# Altium footprint library PowerSupply.PcbLib: 14 footprints
Each footprint in its own frame and in the unit in brackets; x right, y up, seen from the top. Pads: shape width x height; smd on the part's side, far side on the other; paste and mask are expansions set on the pad; w line width, h text height; cw(c..) or ccw(c..) is an arc to the next point about the centre after c.
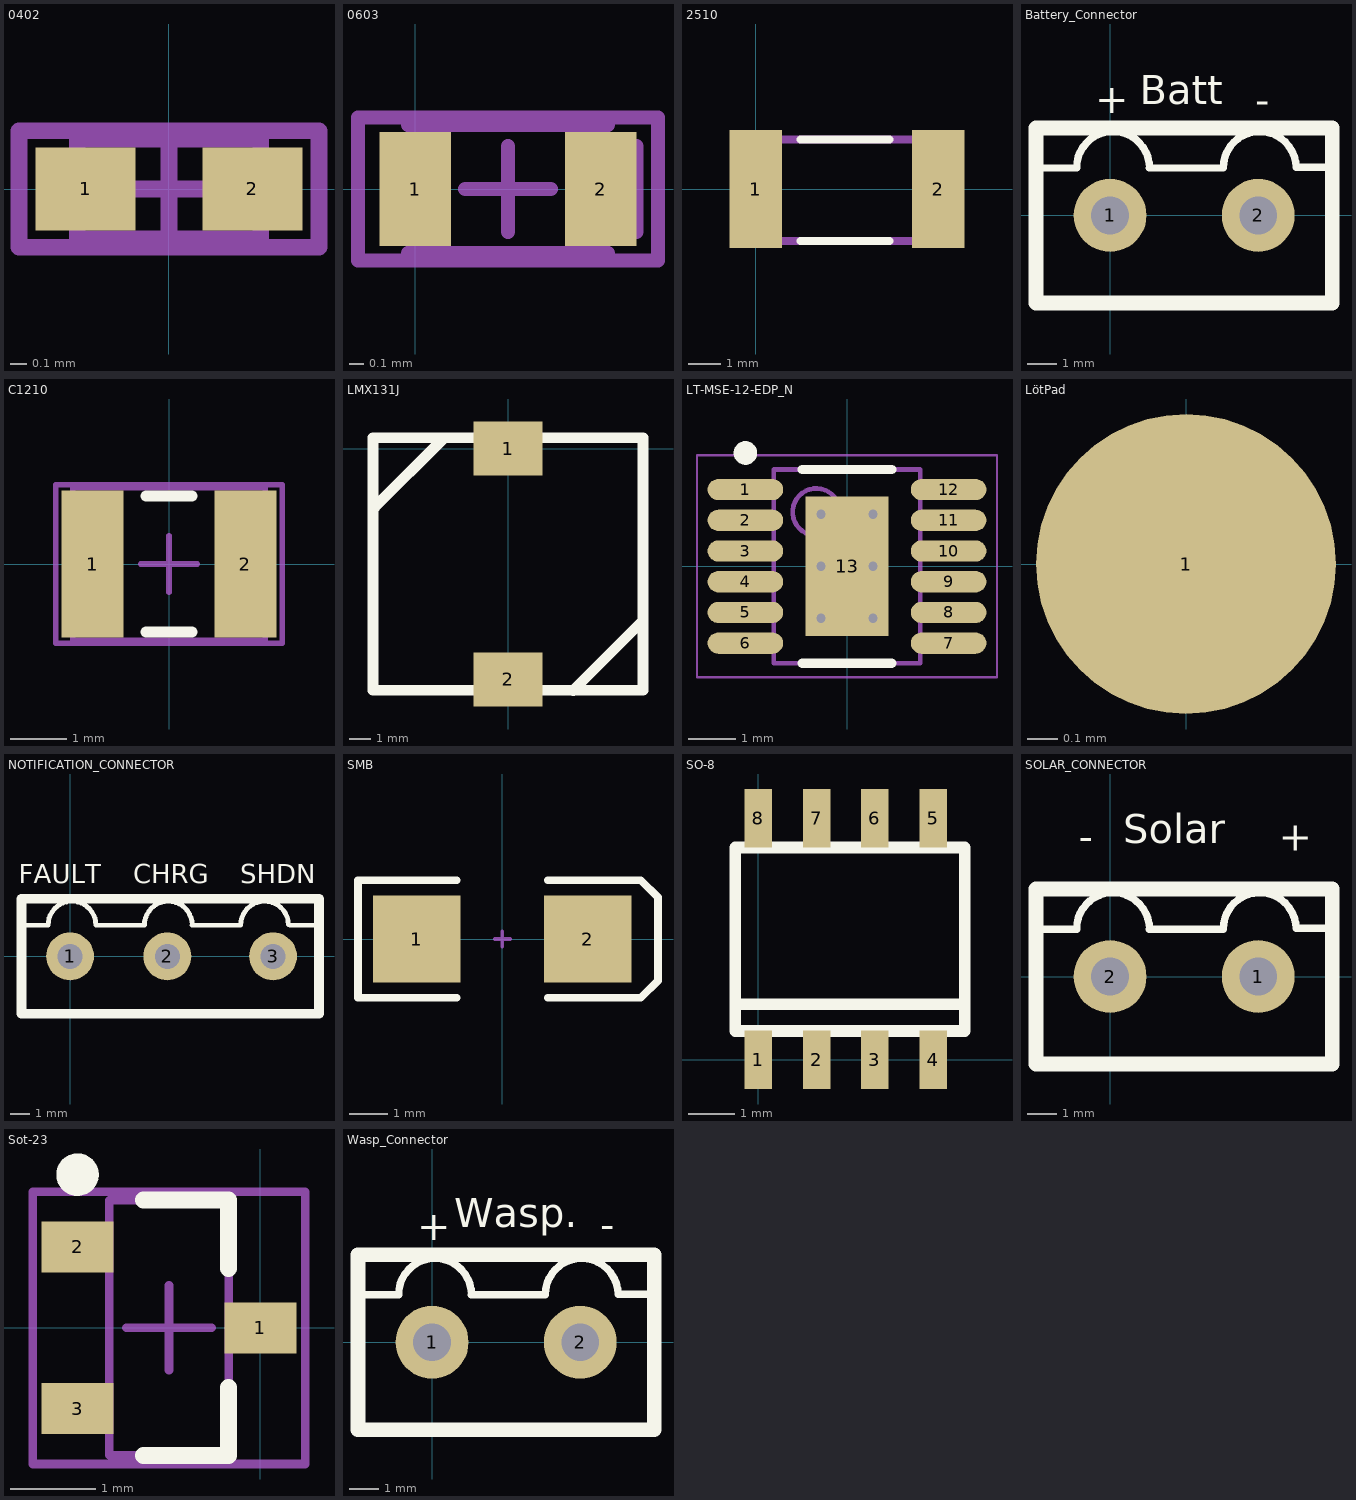
[diagram p0: the footprints below, top view; thin cyan lines are the x and y axes]

## 0402 [mm] "Chip Inductor, Body 1.0x0.5mm, IPC High Density"
height 0.55
pads (2):
  rect 0.6x0.5 smd: 1(-0.5,0) 2(0.5,0)
Mechanical 13:
  lines w0.1: -0.55,-0.3 -0.55,0.3 0.55,0.3 0.55,-0.3 -0.55,-0.3
Mechanical 15:
  lines w0.1: -0.3,0 0.3,0 ; 0,-0.3 0,0.3 ; -0.9,-0.35 -0.9,0.35 0.9,0.35 0.9,-0.35 -0.9,-0.35
3D body: height 0.55, standoff 0, extent -0.55,-0.3 0.55,0.3

## 0603 [mm]
pads (2):
  rect 0.5x0.8 smd: 1(0,0) 2(1.3,0)
Mechanical 13:
  lines w0.1: -0.05,-0.45 1.35,-0.45 ; -0.05,-0.3 -0.05,0.3 ; -0.05,0.45 1.35,0.45 ; 1.55,-0.3 1.55,0.3
Mechanical 15:
  lines w0.1: 0.35,0 0.95,0 ; 0.65,-0.3 0.65,0.3 ; -0.4,-0.5 1.7,-0.5 1.7,0.5 -0.4,0.5 -0.4,-0.5
3D body: height 0.55, standoff 0, extent -0.062,-0.325 1.363,0.325

## 2510 [mm]
pads (2):
  rect 1.65x3.68 smd: 1(0,0) 2(5.71,0)
Top Overlay:
  lines w0.254: 1.397,-1.626 4.191,-1.626 ; 1.397,1.549 4.191,1.549
Mechanical 13:
  lines w0.254: -0.381,-1.631 5.969,-1.631 5.969,1.549 -0.381,1.549 -0.381,-1.631

## Battery_Connector [mm]
pads (2):
  round 2.5 hole 1.3: 1(0,0) 2(5.08,0)
Top Overlay:
  lines w0.254: -2.489,1.626 -1.143,1.626 ; -1.149,1.628 cw(c0.101,1.628) 1.351,1.626 ; 1.346,1.626 3.886,1.626 ; 3.88,1.628 cw(c5.13,1.628) 6.38,1.65 ; 6.401,1.651 7.747,1.651
  lines w0.508: -2.54,-3 7.62,-3 7.62,3 -2.54,3 -2.54,-3
  text "Batt" at 1.016,3.81 h1
  text "+" at -0.5,3.5 h1
  text "-" at 4.98,3.46 h1

## C1210 [mm] "Chip Capacitor, Body 3.2x2.5mm, IPC High Density"
height 1.3
pads (2):
  rect 1.1x2.6 smd: 1(-1.35,0) 2(1.35,0)
Top Overlay:
  lines w0.2: -0.4,-1.2 0.4,-1.2 ; -0.4,1.2 0.4,1.2
Mechanical 13:
  lines w0.1: -1.7,-1.35 -1.7,1.35 1.7,1.35 1.7,-1.35 -1.7,-1.35
Mechanical 15:
  lines w0.1: -0.5,0 0.5,0 ; 0,-0.5 0,0.5 ; -2,-1.4 -2,1.4 2,1.4 2,-1.4 -2,-1.4
3D body: height 1.3, standoff 0, extent -1.7,-1.35 1.7,1.35

## LMX131J [mm]
pads (2):
  rect 3.2x2.5 smd: 1(0,0) 2(0,-10.7)
Top Overlay:
  lines w0.508: -6.172,-2.718 -2.997,0.457 ; 3.023,-11.201 6.198,-8.026 ; -6.25,-11.2 -6.25,0.5 6.25,0.5 6.25,-11.2 -6.25,-11.2

## LT-MSE-12-EDP_N [mm] "SOP, 12-Leads, Body 4.1x3.1mm, Pitch 0.65mm, Thermal Pad 2.95x1.76mm, IPC Medium Density"
height 1.1
pads (13):
  oval 1.6x0.45 smd: 1(-2.15,1.625) 2(-2.15,0.975) 3(-2.15,0.325) 4(-2.15,-0.325) 5(-2.15,-0.975) 6(-2.15,-1.625) 7(2.15,-1.625) 8(2.15,-0.975) 9(2.15,-0.325) 10(2.15,0.325) 11(2.15,0.975) 12(2.15,1.625)
  rect 1.76x2.95 smd: 13(0,0)
via -0.55,1.1 diameter 0.5 hole 0.2
via 0.55,1.1 diameter 0.5 hole 0.2
via -0.55,0 diameter 0.5 hole 0.2
via 0.55,0 diameter 0.5 hole 0.2
via -0.55,-1.1 diameter 0.5 hole 0.2
via 0.55,-1.1 diameter 0.5 hole 0.2
Top Overlay:
  circle w0.25: c-2.15,2.4 r0.125
  lines w0.2: -0.95,-2.05 0.95,-2.05 ; -0.95,2.05 0.95,2.05
Mechanical 13:
  circle w0.1: c-0.65,1.15 r0.5
  lines w0.1: -1.55,-2.05 -1.55,2.05 1.55,2.05 1.55,-2.05 -1.55,-2.05
Mechanical 15:
  lines w0.05: -3.175,-2.35 -3.175,2.35 3.175,2.35 3.175,-2.35 -3.175,-2.35
  lines w0.1: -0.5,0 0.5,0 ; 0,-0.5 0,0.5
3D body: height 1.1, standoff 0.05, extent -1.55,-2.05 1.55,2.05

## LötPad [mm]
pads (1):
  round 1 smd: 1(0,0)

## NOTIFICATION_CONNECTOR [mm]
pads (3):
  round 2.5 hole 1.3: 1(0,0) 2(5.08,0) 3(10.6,0)
Top Overlay:
  lines w0.254: -2.489,1.626 -1.143,1.626 ; -1.149,1.628 cw(c0.101,1.628) 1.351,1.626 ; 1.346,1.626 3.886,1.626 ; 3.88,1.628 cw(c5.13,1.628) 6.38,1.65 ; 6.375,1.626 8.915,1.626 ; 8.909,1.628 cw(c10.159,1.628) 11.409,1.65 ; 11.481,1.626 12.827,1.626
  lines w0.508: -2.54,-3 -2.54,3 13,3 13,-3 -2.54,-3
  text "CHRG" at 3.302,3.81 h1
  text "FAULT" at -2.667,3.81 h1
  text "SHDN" at 8.89,3.81 h1

## SMB [mm] "DO-214-AA/SMB; 2 C-Bend Leads; Body 5.3 x 3.6 mm, inc. leads (LxW)"
height 2.54
pads (2):
  rect 2.3x2.3 smd: 1(-2.25,0) 2(2.25,0)
Top Overlay:
  lines w0.2: -1.2,-1.55 -3.8,-1.55 -3.8,1.55 -1.2,1.55 ; 1.2,-1.55 3.65,-1.55 4.1,-1.1 4.1,1.1 3.65,1.55 1.2,1.55
Mechanical 1:
  lines w0.1: -0.2,0 0.2,0 ; 0,-0.2 0,0.2

## SO-8 [mm]
pads (8):
  rect 0.6x1.27 smd: 1(0,0) 2(1.27,0) 3(2.54,0) 4(3.81,0) 5(3.81,5.27) 6(2.54,5.27) 7(1.27,5.27) 8(0,5.27)
Top Overlay:
  lines w0.254: -0.5,1.214 4.5,1.214 ; -0.5,0.63 -0.5,4.63 4.5,4.63 4.5,0.63 -0.5,0.63

## SOLAR_CONNECTOR [mm]
pads (2):
  round 2.5 hole 1.3: 1(5.08,0) 2(0,0)
Top Overlay:
  lines w0.254: -2.489,1.626 -1.143,1.626 ; -1.149,1.628 cw(c0.101,1.628) 1.351,1.626 ; 1.346,1.626 3.886,1.626 ; 3.88,1.628 cw(c5.13,1.628) 6.38,1.65 ; 6.401,1.651 7.747,1.651
  lines w0.508: -2.54,-3 7.62,-3 7.62,3 -2.54,3 -2.54,-3
  text "Solar" at 0.451,4.572 h1
  text "+" at 5.785,4.318 h1
  text "-" at -1.073,4.318 h1

## Sot-23 [mm]
pads (3):
  rect 0.85x0.6 smd: 1(0,0) 2(-2.15,0.95) 3(-2.15,-0.95)
Top Overlay:
  circle w0.25: c-2.15,1.8 r0.125
  lines w0.2: -1.375,-1.5 -0.375,-1.5 -0.375,-0.7 ; -1.375,1.5 -0.375,1.5 -0.375,0.7
Mechanical 13:
  lines w0.1: -1.775,-1.5 -1.775,1.5 -0.375,1.5 -0.375,-1.5 -1.775,-1.5
Mechanical 15:
  lines w0.1: -1.575,0 -0.575,0 ; -1.075,-0.5 -1.075,0.5 ; -2.675,-1.6 -2.675,1.6 0.525,1.6 0.525,-1.6 -2.675,-1.6
3D body: height 1.1, standoff 0, extent -1.775,-1.5 -0.375,1.5

## Wasp_Connector [mm]
pads (2):
  round 2.5 hole 1.3: 1(0,0) 2(5.08,0)
Top Overlay:
  lines w0.254: -2.489,1.626 -1.143,1.626 ; -1.149,1.628 cw(c0.101,1.628) 1.351,1.626 ; 1.346,1.626 3.886,1.626 ; 3.88,1.628 cw(c5.13,1.628) 6.38,1.65 ; 6.401,1.651 7.747,1.651
  lines w0.508: -2.54,-3 7.62,-3 7.62,3 -2.54,3 -2.54,-3
  text "Wasp." at 0.762,3.937 h1
  text "+" at -0.5,3.5 h1
  text "-" at 5.772,3.556 h1